# Altium integrated library Renesas Microcontroller H8S.IntLib: 670 symbols (part 64 of 70)
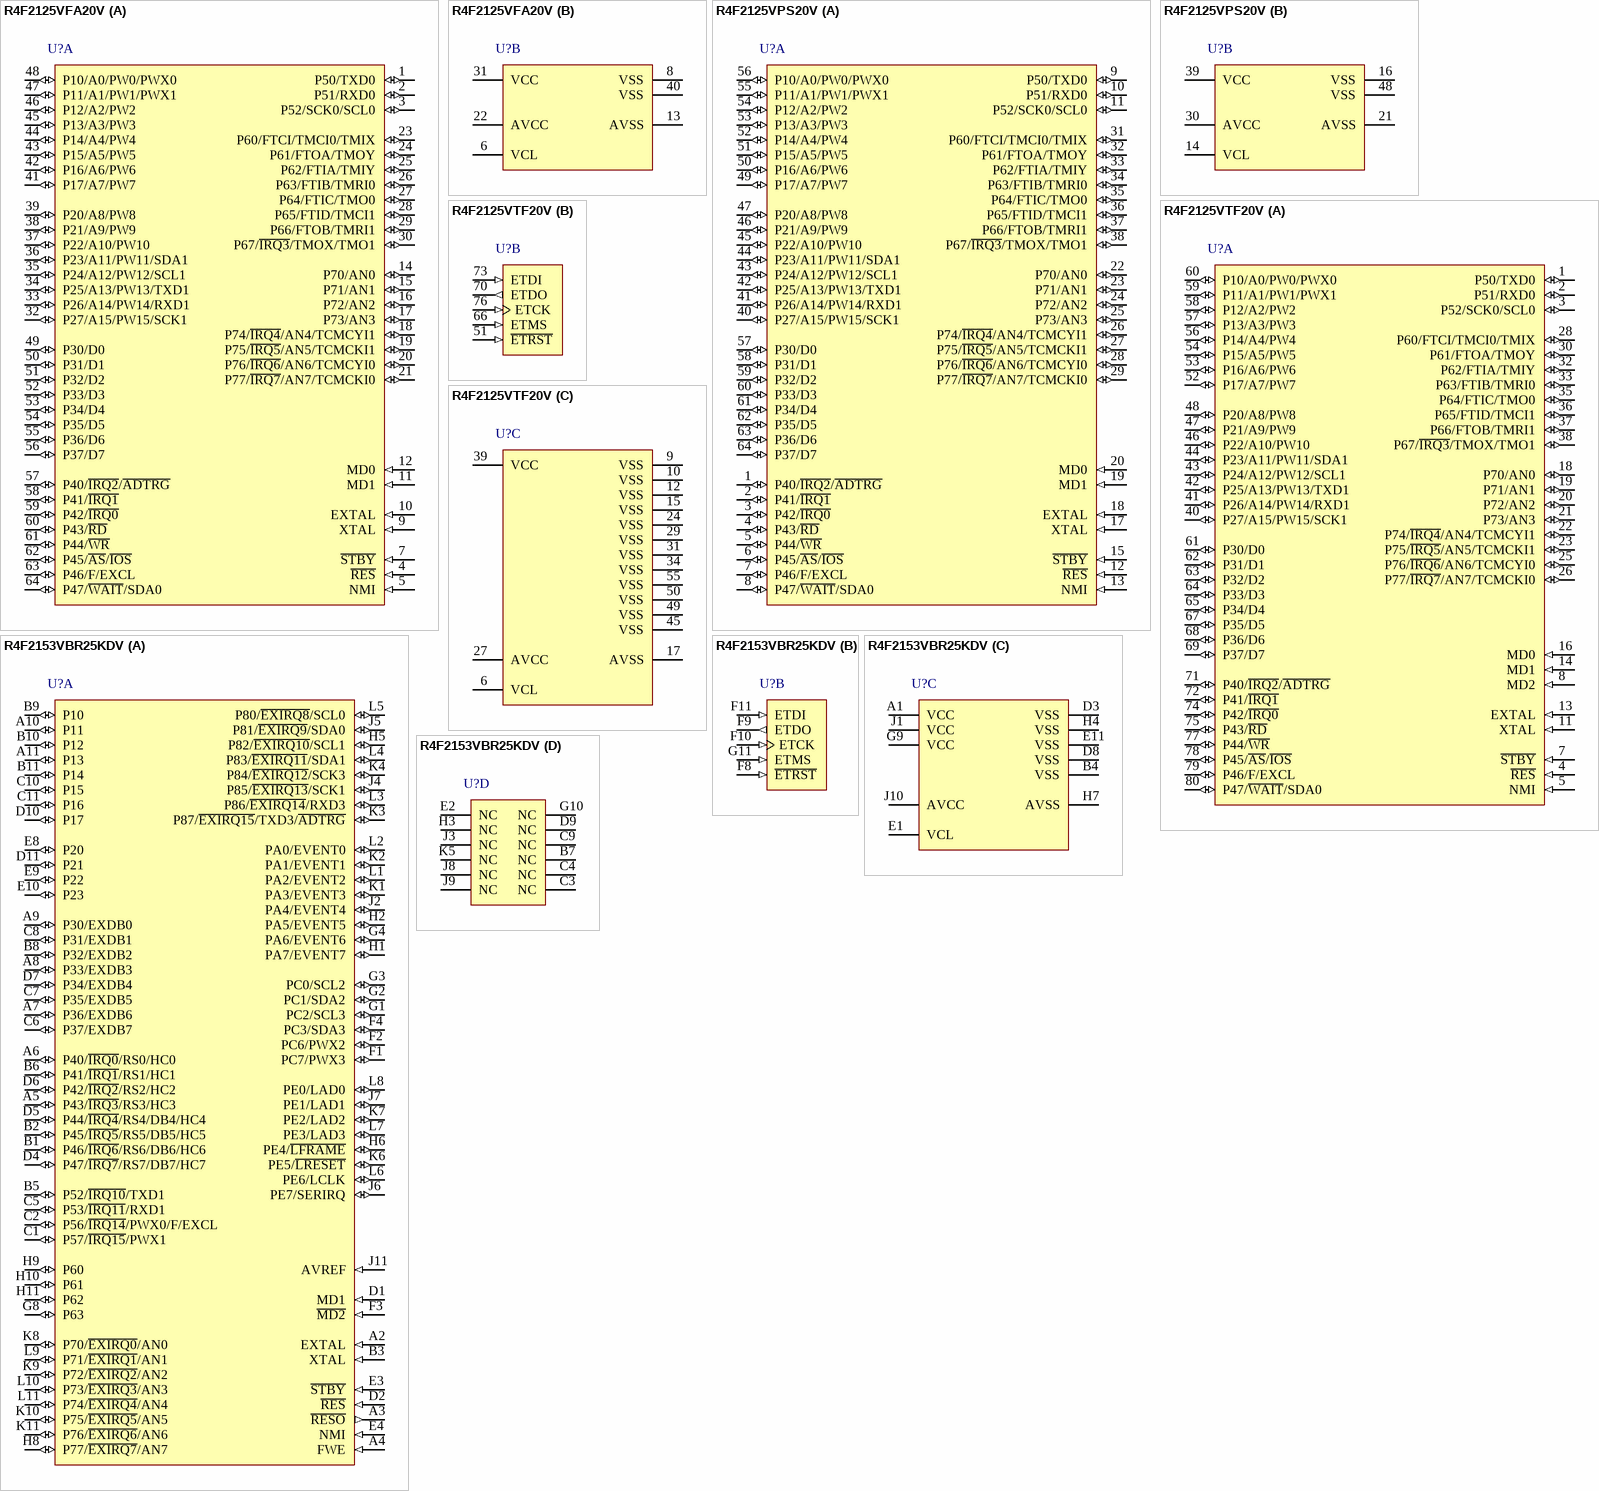
[diagram p376: symbols R4F2125VFA20V to R4F2153VBR25KDV]

## R4F2125VTF20V
designator U?
Flash memory H8S/2100 Series, 2125 Group MCU, 512K ROM, 8K RAM, TFP-80C Pkg; Published: 28-Aug-2009; DatasheetVersion: Rev.1.00, Sep-2006; PackageVersion: Sep-2005; PackageReference: PTQP0080KC-A; Publisher: Altium Limited; PackageDescription: 80-Pin Plastic Thin Quad Flat Pack, 12 x 12 x 1.0 mm Body, 0.5 mm Pitch; Code_JEITA: P-TQFP80-12x12-0.50; ComponentLink1Description: Manufacturer Link; ComponentLink1URL: http://sg.renesas.com/fmwk.jsp?cnt=h8s_family_landing.jsp&fp=/products/mpumcu/h8s_family/; ComponentLink2Description: Datasheet; ComponentLink2URL: http://documentation.renesas.com/eng/products/mpumcu/rej09b0310_h8s2125hm.pdf; ComponentLink3Description: Packaging Specification; ComponentLink3URL: http://sg.renesas.com/media/products/common_info/package/pdf/ic/code/ptqp0080kc_a.pdf
footprint PTQP0080KC-A_N (Thin QFP, 80-Leads, Body 12x12mm, Pitch 0.5mm, IPC Medium Density)
footprint PTQP0080KC-A_L (Thin QFP, 80-Leads, Body 12x12mm, Pitch 0.5mm, IPC High Density)
footprint PTQP0080KC-A_M (Thin QFP, 80-Leads, Body 12x12mm, Pitch 0.5mm, IPC Low Density)
part A pins: 1 P50/TXD0 (io), 2 P51/RXD0 (io), 3 P52/SCK0/SCL0 (io), 4 ~{RES} (in), 5 NMI (in), 7 ~{STBY} (in), 8 MD2 (in), 11 XTAL (in), 13 EXTAL (in), 14 MD1 (in), 16 MD0 (in), 18 P70/AN0 (io), 19 P71/AN1 (io), 20 P72/AN2 (io), 21 P73/AN3 (io), 22 P74/~{IRQ4}/AN4/TCMCYI1 (io), 23 P75/~{IRQ5}/AN5/TCMCKI1 (io), 25 P76/~{IRQ6}/AN6/TCMCYI0 (io), 26 P77/~{IRQ7}/AN7/TCMCKI0 (io), 28 P60/FTCI/TMCI0/TMIX (io), 30 P61/FTOA/TMOY (io), 32 P62/FTIA/TMIY (io), 33 P63/FTIB/TMRI0 (io), 35 P64/FTIC/TMO0 (io), 36 P65/FTID/TMCI1 (io), 37 P66/FTOB/TMRI1 (io), 38 P67/~{IRQ3}/TMOX/TMO1 (io), 40 P27/A15/PW15/SCK1 (io), 41 P26/A14/PW14/RXD1 (io), 42 P25/A13/PW13/TXD1 (io), 43 P24/A12/PW12/SCL1 (io), 44 P23/A11/PW11/SDA1 (io), 46 P22/A10/PW10 (io), 47 P21/A9/PW9 (io), 48 P20/A8/PW8 (io), 52 P17/A7/PW7 (io), 53 P16/A6/PW6 (io), 54 P15/A5/PW5 (io), 56 P14/A4/PW4 (io), 57 P13/A3/PW3 (io), 58 P12/A2/PW2 (io), 59 P11/A1/PW1/PWX1 (io), 60 P10/A0/PW0/PWX0 (io), 61 P30/D0 (io), 62 P31/D1 (io), 63 P32/D2 (io), 64 P33/D3 (io), 65 P34/D4 (io), 67 P35/D5 (io), 68 P36/D6 (io), 69 P37/D7 (io), 71 P40/~{IRQ2}/~{ADTRG} (io), 72 P41/~{IRQ1} (io), 74 P42/~{IRQ0} (io), 75 P43/~{RD} (io), 77 P44/~{WR} (io), 78 P45/~{AS}/~{IOS} (io), 79 P46/F/EXCL (io), 80 P47/~{WAIT}/SDA0 (io)
part B pins: 51 ~{ETRST} (in), 66 ETMS (in), 70 ETDO (out), 73 ETDI (in), 76 ETCK (in)
part C pins: 6 VCL, 9 VSS (power), 10 VSS (power), 12 VSS (power), 15 VSS (power), 17 AVSS (power), 24 VSS (power), 27 AVCC (power), 29 VSS (power), 31 VSS (power), 34 VSS (power), 39 VCC (power), 45 VSS (power), 49 VSS (power), 50 VSS (power), 55 VSS (power)

## R4F2153VBR25KDV
designator U?
Flash memory H8S/2100 Series, 2153 Group MCU, 512K ROM, 40K RAM, BP-112V Pkg; Published: 28-Aug-2009; DatasheetVersion: Rev.3.00, Sep-2009; PackageVersion: Sep-2005; PackageReference: PLBG0112GA-A; Publisher: Altium Limited; PackageDescription: 112-Ball Plastic Low Profile Thin-Fine Pitch BGA, 10 x 10 mm Body, 0.8 mm Pitch; Supplier 1: Digi-Key; Supplier Part Number 1: R4F2153VBR25KDV-ND; Code_JEITA: P-LFBGA112-10x10-0.80; ComponentLink1Description: Manufacturer Link; ComponentLink1URL: http://sg.renesas.com/fmwk.jsp?cnt=h8s_family_landing.jsp&fp=/products/mpumcu/h8s_family/; ComponentLink2Description: Datasheet; ComponentLink2URL: http://documentation.renesas.com/eng/products/mpumcu/rej09b0384_h8s2153hm.pdf; ComponentLink3Description: Packaging Specification; ComponentLink3URL: http://sg.renesas.com/media/products/common_info/package/pdf/ic/code/plbg0112ga_a.pdf
footprint PLBG0112GA-A (BGA, 112-Leads, Body 10x10mm, Pitch 0.8mm)
part A pins: A2 EXTAL (in), A3 ~{RESO} (out), A4 FWE (in), A5 P43/~{IRQ3}/RS3/HC3 (io), A6 P40/~{IRQ0}/RS0/HC0 (io), A7 P36/EXDB6 (io), A8 P33/EXDB3 (io), A9 P30/EXDB0 (io), A10 P11 (io), A11 P13 (io), B1 P46/~{IRQ6}/RS6/DB6/HC6 (io), B2 P45/~{IRQ5}/RS5/DB5/HC5 (io), B3 XTAL (in), B5 P52/~{IRQ10}/TXD1 (io), B6 P41/~{IRQ1}/RS1/HC1 (io), B8 P32/EXDB2 (io), B9 P10 (io), B10 P12 (io), B11 P14 (io), C1 P57/~{IRQ15}/PWX1 (io), C2 P56/~{IRQ14}/PWX0/F/EXCL (io), C5 P53/~{IRQ11}/RXD1 (io), C6 P37/EXDB7 (io), C7 P35/EXDB5 (io), C8 P31/EXDB1 (io), C10 P15 (io), C11 P16 (io), D1 MD1 (in), D2 ~{RES} (in), D4 P47/~{IRQ7}/RS7/DB7/HC7 (io), D5 P44/~{IRQ4}/RS4/DB4/HC4 (io), D6 P42/~{IRQ2}/RS2/HC2 (io), D7 P34/EXDB4 (io), D10 P17 (io), D11 P21 (io), E3 ~{STBY} (in), E4 NMI (in), E8 P20 (io), E9 P22 (io), E10 P23 (io), F1 PC7/PWX3 (io), F2 PC6/PWX2 (io), F3 ~{MD2} (in), F4 PC3/SDA3 (io), G1 PC2/SCL3 (io), G2 PC1/SDA2 (io), G3 PC0/SCL2 (io), G4 PA6/EVENT6 (io), G8 P63 (io), H1 PA7/EVENT7 (io), H2 PA5/EVENT5 (io), H5 P82/~{EXIRQ10}/SCL1 (io), H6 PE4/~{LFRAME} (io), H8 P77/~{EXIRQ7}/AN7 (io), H9 P60 (io), H10 P61 (io), H11 P62 (io), J2 PA4/EVENT4 (io), J4 P85/~{EXIRQ13}/SCK1 (io), J5 P81/~{EXIRQ9}/SDA0 (io), J6 PE7/SERIRQ (io), J7 PE1/LAD1 (io), J11 AVREF (in), K1 PA3/EVENT3 (io), K2 PA1/EVENT1 (io), K3 P87/~{EXIRQ15}/TXD3/~{ADTRG} (io), K4 P84/~{EXIRQ12}/SCK3 (io), K6 PE5/~{LRESET} (io), K7 PE2/LAD2 (io), K8 P70/~{EXIRQ0}/AN0 (io), K9 P72/~{EXIRQ2}/AN2 (io), K10 P75/~{EXIRQ5}/AN5 (io), K11 P76/~{EXIRQ6}/AN6 (io), L1 PA2/EVENT2 (io), L2 PA0/EVENT0 (io), L3 P86/~{EXIRQ14}/RXD3 (io), L4 P83/~{EXIRQ11}/SDA1 (io), L5 P80/~{EXIRQ8}/SCL0 (io), L6 PE6/LCLK (io), L7 PE3/LAD3 (io), L8 PE0/LAD0 (io), L9 P71/~{EXIRQ1}/AN1 (io), L10 P73/~{EXIRQ3}/AN3 (io), L11 P74/~{EXIRQ4}/AN4 (io)
part B pins: F8 ~{ETRST} (in), F9 ETDO (out), F10 ETCK (in), F11 ETDI (in), G11 ETMS (in)
part C pins: A1 VCC (power), B4 VSS (power), D3 VSS (power), D8 VSS (power), E1 VCL, E11 VSS (power), G9 VCC (power), H4 VSS (power), H7 AVSS (power), J1 VCC (power), J10 AVCC (power)
part D pins: B7 NC, C3 NC, C4 NC, C9 NC, D9 NC, E2 NC, G10 NC, H3 NC, J3 NC, J8 NC, J9 NC, K5 NC

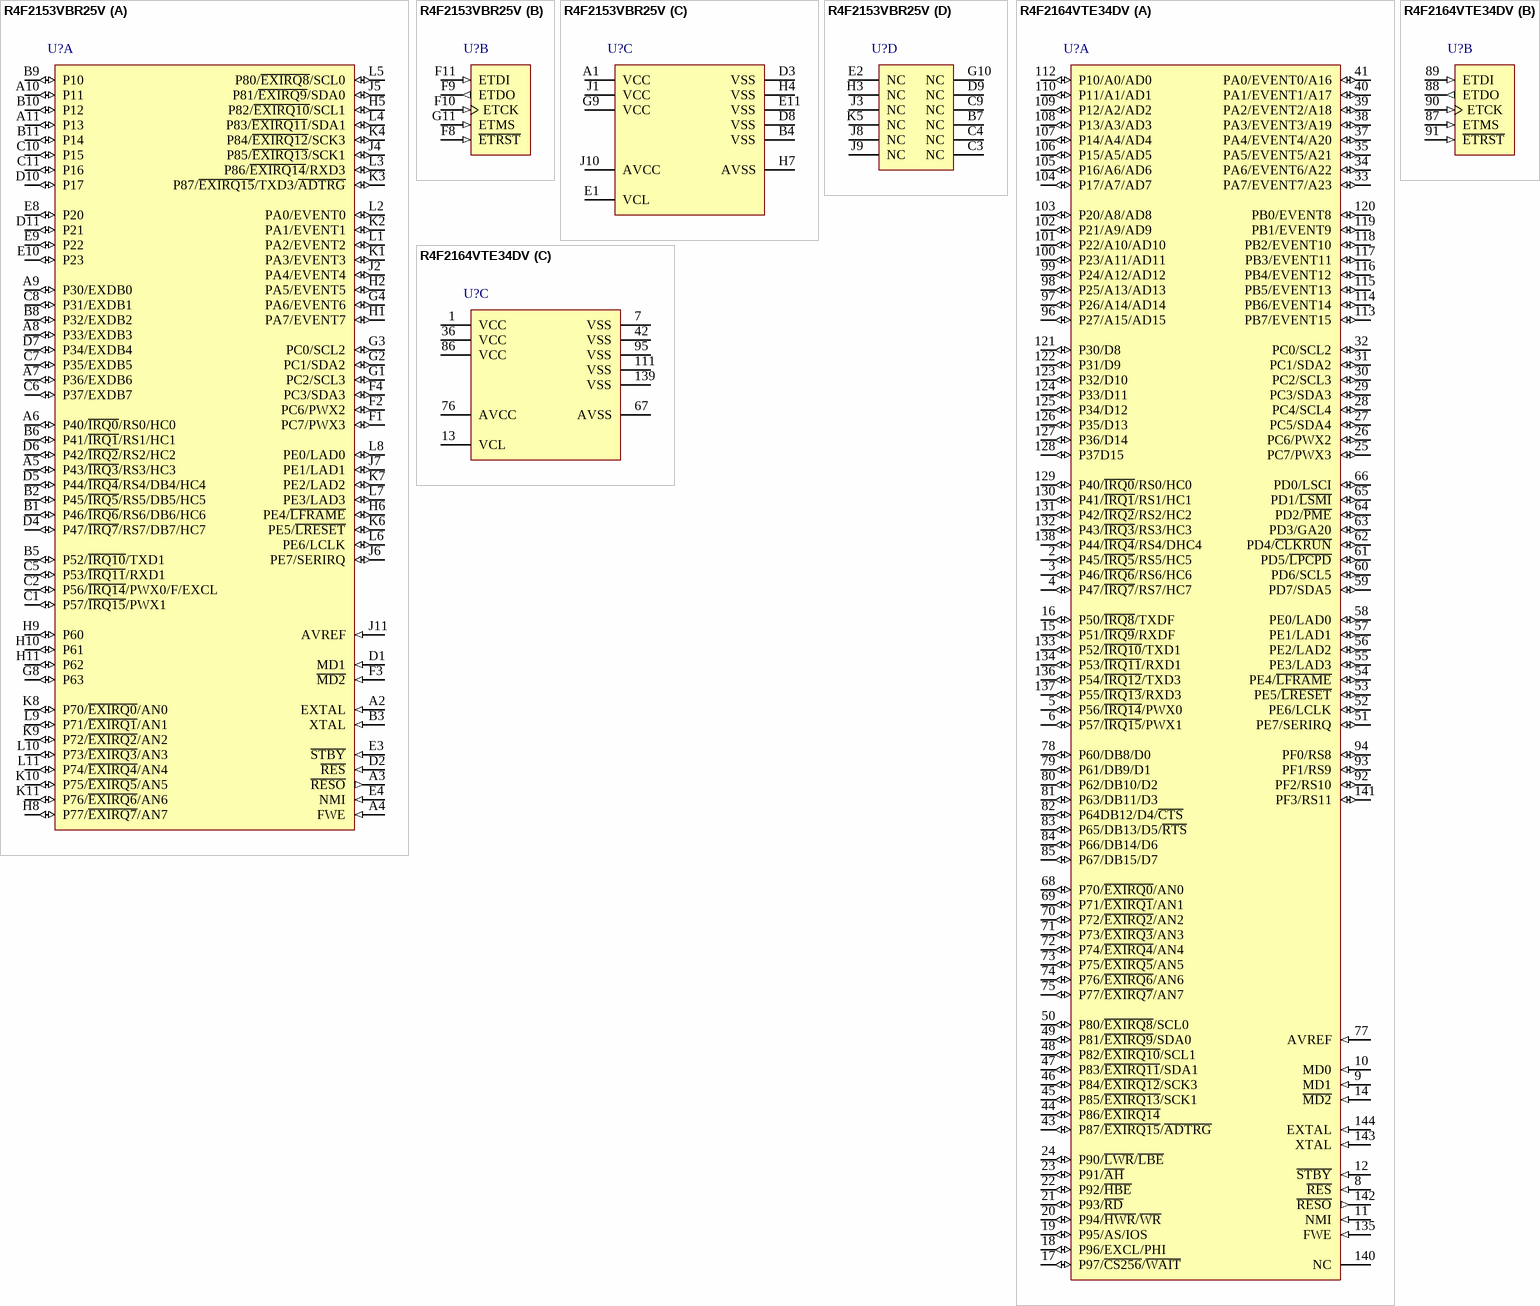
[diagram p223: symbols R4F2153VBR25V to R4F2164VTE34DV]

## R4F2153VBR25V
designator U?
Flash memory H8S/2100 Series, 2153 Group MCU, 512K ROM, 40K RAM, BP-112V Pkg; Published: 28-Aug-2009; DatasheetVersion: Rev.3.00, Sep-2009; PackageVersion: Sep-2005; PackageReference: PLBG0112GA-A; Publisher: Altium Limited; PackageDescription: 112-Ball Plastic Low Profile Thin-Fine Pitch BGA, 10 x 10 mm Body, 0.8 mm Pitch; Code_JEITA: P-LFBGA112-10x10-0.80; ComponentLink1Description: Manufacturer Link; ComponentLink1URL: http://sg.renesas.com/fmwk.jsp?cnt=h8s_family_landing.jsp&fp=/products/mpumcu/h8s_family/; ComponentLink2Description: Datasheet; ComponentLink2URL: http://documentation.renesas.com/eng/products/mpumcu/rej09b0384_h8s2153hm.pdf; ComponentLink3Description: Packaging Specification; ComponentLink3URL: http://sg.renesas.com/media/products/common_info/package/pdf/ic/code/plbg0112ga_a.pdf
footprint PLBG0112GA-A (BGA, 112-Leads, Body 10x10mm, Pitch 0.8mm)
part A pins: A2 EXTAL (in), A3 ~{RESO} (out), A4 FWE (in), A5 P43/~{IRQ3}/RS3/HC3 (io), A6 P40/~{IRQ0}/RS0/HC0 (io), A7 P36/EXDB6 (io), A8 P33/EXDB3 (io), A9 P30/EXDB0 (io), A10 P11 (io), A11 P13 (io), B1 P46/~{IRQ6}/RS6/DB6/HC6 (io), B2 P45/~{IRQ5}/RS5/DB5/HC5 (io), B3 XTAL (in), B5 P52/~{IRQ10}/TXD1 (io), B6 P41/~{IRQ1}/RS1/HC1 (io), B8 P32/EXDB2 (io), B9 P10 (io), B10 P12 (io), B11 P14 (io), C1 P57/~{IRQ15}/PWX1 (io), C2 P56/~{IRQ14}/PWX0/F/EXCL (io), C5 P53/~{IRQ11}/RXD1 (io), C6 P37/EXDB7 (io), C7 P35/EXDB5 (io), C8 P31/EXDB1 (io), C10 P15 (io), C11 P16 (io), D1 MD1 (in), D2 ~{RES} (in), D4 P47/~{IRQ7}/RS7/DB7/HC7 (io), D5 P44/~{IRQ4}/RS4/DB4/HC4 (io), D6 P42/~{IRQ2}/RS2/HC2 (io), D7 P34/EXDB4 (io), D10 P17 (io), D11 P21 (io), E3 ~{STBY} (in), E4 NMI (in), E8 P20 (io), E9 P22 (io), E10 P23 (io), F1 PC7/PWX3 (io), F2 PC6/PWX2 (io), F3 ~{MD2} (in), F4 PC3/SDA3 (io), G1 PC2/SCL3 (io), G2 PC1/SDA2 (io), G3 PC0/SCL2 (io), G4 PA6/EVENT6 (io), G8 P63 (io), H1 PA7/EVENT7 (io), H2 PA5/EVENT5 (io), H5 P82/~{EXIRQ10}/SCL1 (io), H6 PE4/~{LFRAME} (io), H8 P77/~{EXIRQ7}/AN7 (io), H9 P60 (io), H10 P61 (io), H11 P62 (io), J2 PA4/EVENT4 (io), J4 P85/~{EXIRQ13}/SCK1 (io), J5 P81/~{EXIRQ9}/SDA0 (io), J6 PE7/SERIRQ (io), J7 PE1/LAD1 (io), J11 AVREF (in), K1 PA3/EVENT3 (io), K2 PA1/EVENT1 (io), K3 P87/~{EXIRQ15}/TXD3/~{ADTRG} (io), K4 P84/~{EXIRQ12}/SCK3 (io), K6 PE5/~{LRESET} (io), K7 PE2/LAD2 (io), K8 P70/~{EXIRQ0}/AN0 (io), K9 P72/~{EXIRQ2}/AN2 (io), K10 P75/~{EXIRQ5}/AN5 (io), K11 P76/~{EXIRQ6}/AN6 (io), L1 PA2/EVENT2 (io), L2 PA0/EVENT0 (io), L3 P86/~{EXIRQ14}/RXD3 (io), L4 P83/~{EXIRQ11}/SDA1 (io), L5 P80/~{EXIRQ8}/SCL0 (io), L6 PE6/LCLK (io), L7 PE3/LAD3 (io), L8 PE0/LAD0 (io), L9 P71/~{EXIRQ1}/AN1 (io), L10 P73/~{EXIRQ3}/AN3 (io), L11 P74/~{EXIRQ4}/AN4 (io)
part B pins: F8 ~{ETRST} (in), F9 ETDO (out), F10 ETCK (in), F11 ETDI (in), G11 ETMS (in)
part C pins: A1 VCC (power), B4 VSS (power), D3 VSS (power), D8 VSS (power), E1 VCL, E11 VSS (power), G9 VCC (power), H4 VSS (power), H7 AVSS (power), J1 VCC (power), J10 AVCC (power)
part D pins: B7 NC, C3 NC, C4 NC, C9 NC, D9 NC, E2 NC, G10 NC, H3 NC, J3 NC, J8 NC, J9 NC, K5 NC

## R4F2164VTE34DV
designator U?
Flash memory H8S/2100 Series, 2164 Group MCU, 512K ROM, 40K RAM, TFP-144V Pkg; Published: 28-Aug-2009; DatasheetVersion: Rev.2.00, Sep-2009; PackageVersion: Sep-2005; PackageReference: PTQP0144LC-A; Publisher: Altium Limited; PackageDescription: 144-Pin Plastic Thin Quad Flat Pack, 16 x 16 mm Body, 0.4 mm Pitch; Code_JEITA: P-TQFP144-16x16-0.40; ComponentLink1Description: Manufacturer Link; ComponentLink1URL: http://sg.renesas.com/fmwk.jsp?cnt=h8s_family_landing.jsp&fp=/products/mpumcu/h8s_family/; ComponentLink2Description: Datasheet; ComponentLink2URL: http://documentation.renesas.com/eng/products/mpumcu/rej09b0429_h8s2164hm.pdf; ComponentLink3Description: Packaging Specification; ComponentLink3URL: http://sg.renesas.com/media/products/common_info/package/pdf/ic/code/ptqp0144lc_a.pdf
footprint PTQP0144LC-A_N (Thin QFP, 144-Leads, Body 16x16mm, Pitch 0.4mm, IPC Medium Density)
footprint PTQP0144LC-A_L (Thin QFP, 144-Leads, Body 16x16mm, Pitch 0.4mm, IPC High Density)
footprint PTQP0144LC-A_M (Thin QFP, 144-Leads, Body 16x16mm, Pitch 0.4mm, IPC Low Density)
part A pins: 2 P45/~{IRQ5}/RS5/HC5 (io), 3 P46/~{IRQ6}/RS6/HC6 (io), 4 P47/~{IRQ7}/RS7/HC7 (io), 5 P56/~{IRQ14}/PWX0 (io), 6 P57/~{IRQ15}/PWX1 (io), 8 ~{RES} (in), 9 MD1 (in), 10 MD0 (in), 11 NMI (in), 12 ~{STBY} (in), 14 ~{MD2} (in), 15 P51/~{IRQ9}/RXDF (io), 16 P50/~{IRQ8}/TXDF (io), 17 P97/~{CS256}/~{WAIT} (io), 18 P96/EXCL/PHI (io), 19 P95/AS/IOS (io), 20 P94/~{HWR}/~{WR} (io), 21 P93/~{RD} (io), 22 P92/~{HBE} (io), 23 P91/~{AH} (io), 24 P90/~{LWR}/~{LBE} (io), 25 PC7/PWX3 (io), 26 PC6/PWX2 (io), 27 PC5/SDA4 (io), 28 PC4/SCL4 (io), 29 PC3/SDA3 (io), 30 PC2/SCL3 (io), 31 PC1/SDA2 (io), 32 PC0/SCL2 (io), 33 PA7/EVENT7/A23 (io), 34 PA6/EVENT6/A22 (io), 35 PA5/EVENT5/A21 (io), 37 PA4/EVENT4/A20 (io), 38 PA3/EVENT3/A19 (io), 39 PA2/EVENT2/A18 (io), 40 PA1/EVENT1/A17 (io), 41 PA0/EVENT0/A16 (io), 43 P87/~{EXIRQ15}/~{ADTRG} (io), 44 P86/~{EXIRQ14} (io), 45 P85/~{EXIRQ13}/SCK1 (io), 46 P84/~{EXIRQ12}/SCK3 (io), 47 P83/~{EXIRQ11}/SDA1 (io), 48 P82/~{EXIRQ10}/SCL1 (io), 49 P81/~{EXIRQ9}/SDA0 (io), 50 P80/~{EXIRQ8}/SCL0 (io), 51 PE7/SERIRQ (io), 52 PE6/LCLK (io), 53 PE5/~{LRESET} (io), 54 PE4/~{LFRAME} (io), 55 PE3/LAD3 (io), 56 PE2/LAD2 (io), 57 PE1/LAD1 (io), 58 PE0/LAD0 (io), 59 PD7/SDA5 (io), 60 PD6/SCL5 (io), 61 PD5/~{LPCPD} (io), 62 PD4/~{CLKRUN} (io), 63 PD3/GA20 (io), 64 PD2/~{PME} (io), 65 PD1/~{LSMI} (io), 66 PD0/LSCI (io), 68 P70/~{EXIRQ0}/AN0 (io), 69 P71/~{EXIRQ1}/AN1 (io), 70 P72/~{EXIRQ2}/AN2 (io), 71 P73/~{EXIRQ3}/AN3 (io), 72 P74/~{EXIRQ4}/AN4 (io), 73 P75/~{EXIRQ5}/AN5 (io), 74 P76/~{EXIRQ6}/AN6 (io), 75 P77/~{EXIRQ7}/AN7 (io), 77 AVREF (in), 78 P60/DB8/D0 (io), 79 P61/DB9/D1 (io), 80 P62/DB10/D2 (io), 81 P63/DB11/D3 (io), 82 P64DB12/D4/~{CTS} (io), 83 P65/DB13/D5/~{RTS} (io), 84 P66/DB14/D6 (io), 85 P67/DB15/D7 (io), 92 PF2/RS10 (io), 93 PF1/RS9 (io), 94 PF0/RS8 (io), 96 P27/A15/AD15 (io), 97 P26/A14/AD14 (io), 98 P25/A13/AD13 (io), 99 P24/A12/AD12 (io), 100 P23/A11/AD11 (io), 101 P22/A10/AD10 (io), 102 P21/A9/AD9 (io), 103 P20/A8/AD8 (io), 104 P17/A7/AD7 (io), 105 P16/A6/AD6 (io), 106 P15/A5/AD5 (io), 107 P14/A4/AD4 (io), 108 P13/A3/AD3 (io), 109 P12/A2/AD2 (io), 110 P11/A1/AD1 (io), 112 P10/A0/AD0 (io), 113 PB7/EVENT15 (io), 114 PB6/EVENT14 (io), 115 PB5/EVENT13 (io), 116 PB4/EVENT12 (io), 117 PB3/EVENT11 (io), 118 PB2/EVENT10 (io), 119 PB1/EVENT9 (io), 120 PB0/EVENT8 (io), 121 P30/D8 (io), 122 P31/D9 (io), 123 P32/D10 (io), 124 P33/D11 (io), 125 P34/D12 (io), 126 P35/D13 (io), 127 P36/D14 (io), 128 P37D15 (io), 129 P40/~{IRQ0}/RS0/HC0 (io), 130 P41/~{IRQ1}/RS1/HC1 (io), 131 P42/~{IRQ2}/RS2/HC2 (io), 132 P43/~{IRQ3}/RS3/HC3 (io), 133 P52/~{IRQ10}/TXD1 (io), 134 P53/~{IRQ11}/RXD1 (io), 135 FWE (in), 136 P54/~{IRQ12}/TXD3 (io), 137 P55/~{IRQ13}/RXD3 (io), 138 P44/~{IRQ4}/RS4/DHC4 (io), 140 NC, 141 PF3/RS11 (io), 142 ~{RESO} (out), 143 XTAL (in), 144 EXTAL (in)
part B pins: 87 ETMS (in), 88 ETDO (out), 89 ETDI (in), 90 ETCK (in), 91 ~{ETRST} (in)
part C pins: 1 VCC (power), 7 VSS (power), 13 VCL, 36 VCC (power), 42 VSS (power), 67 AVSS (power), 76 AVCC (power), 86 VCC (power), 95 VSS (power), 111 VSS (power), 139 VSS (power)

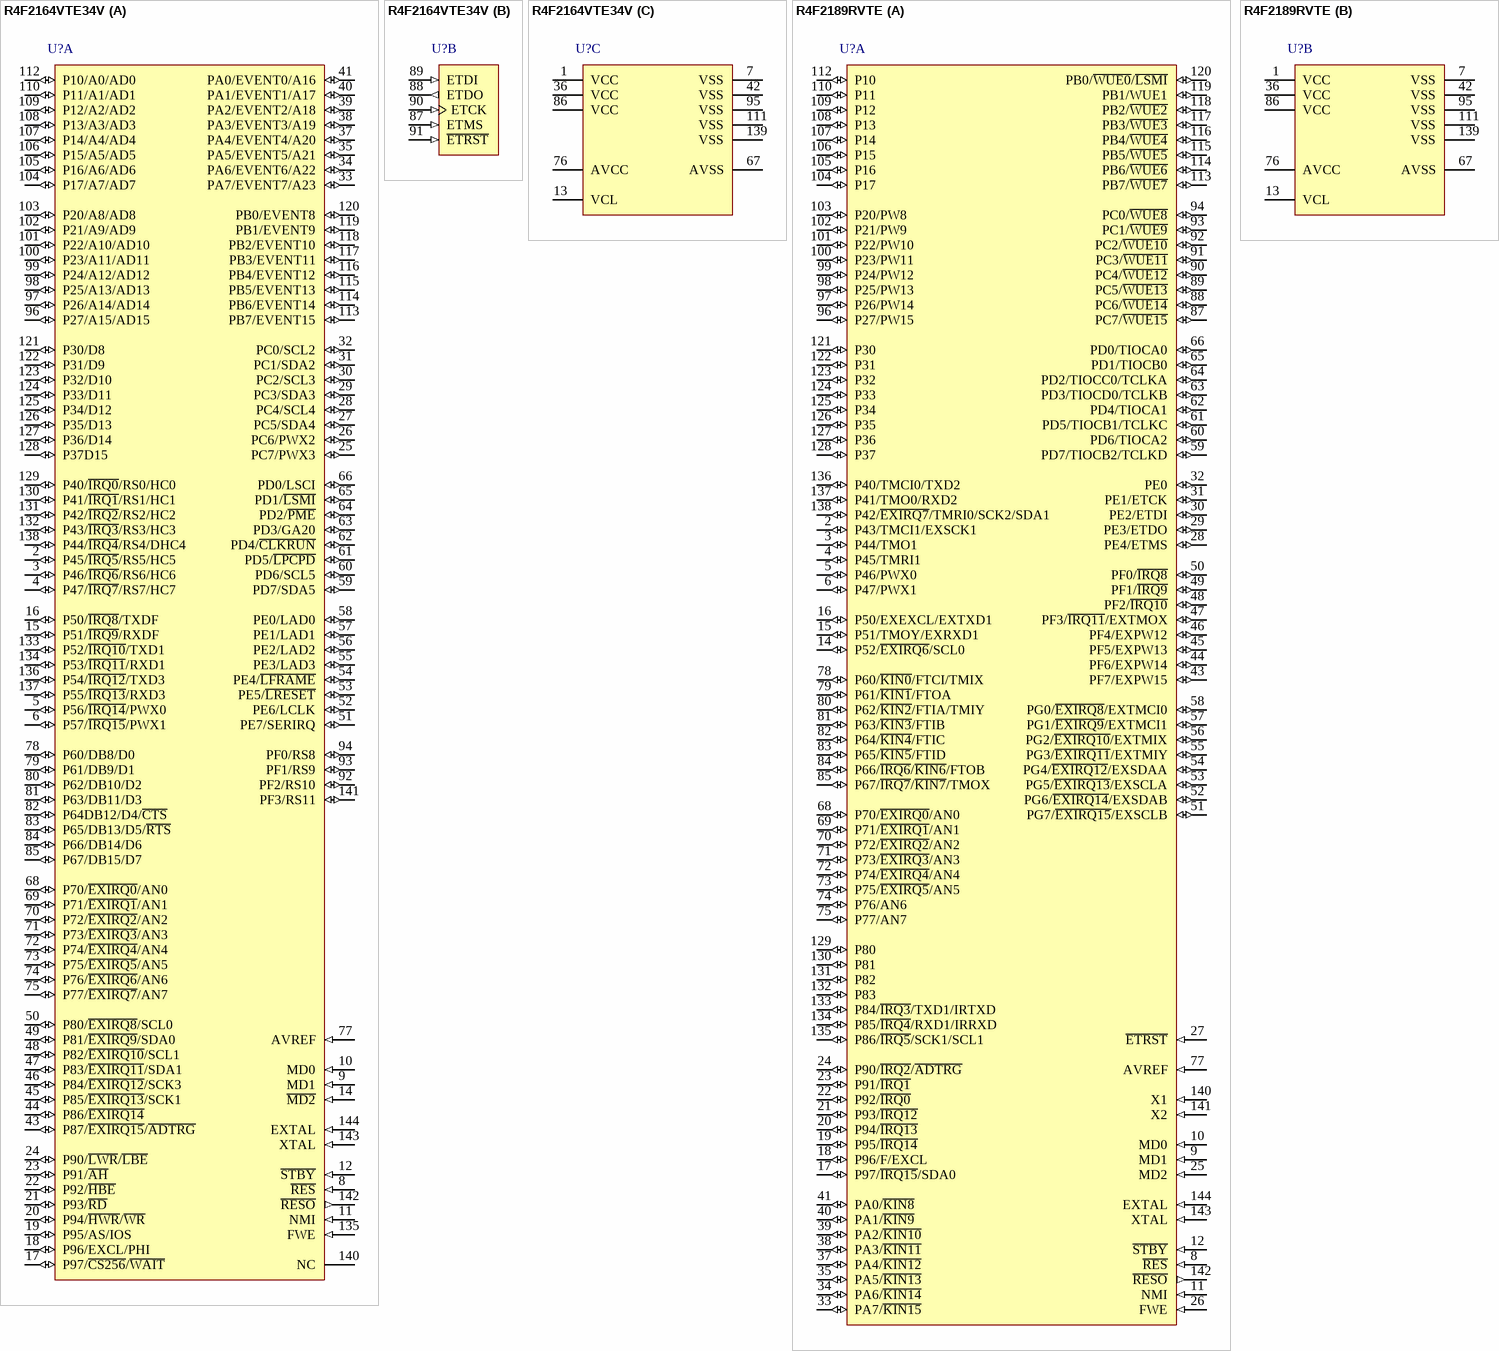
[diagram p224: symbols R4F2164VTE34V to R4F2189RVTE]